# EAGLE library part TPA3130D2DAP (library Deegou_IC)
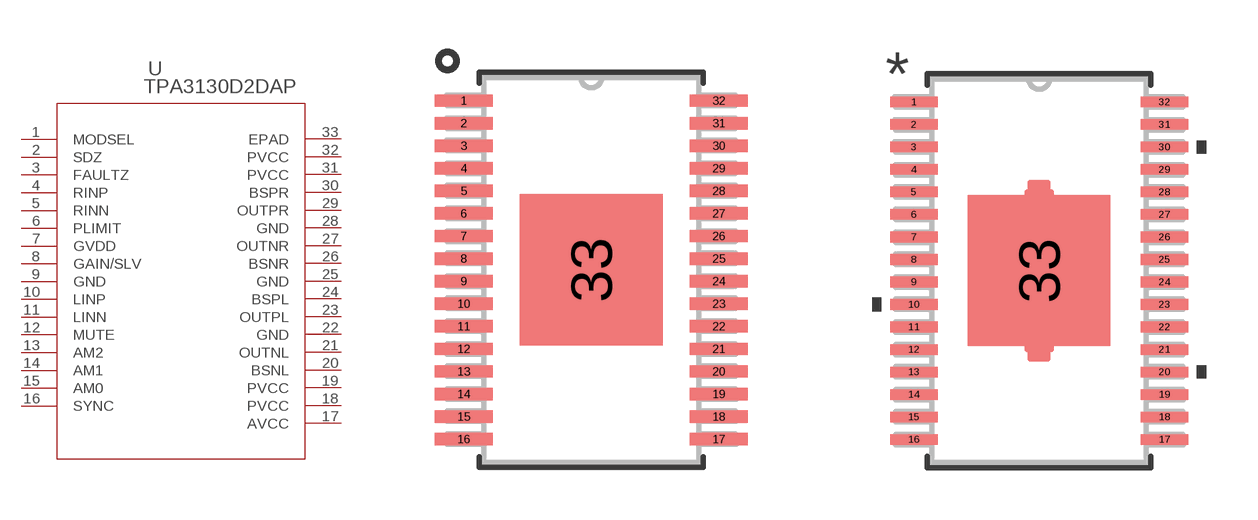
[diagram p178: symbol with the pads of DAP32_4P11X4P36; footprints DAP32_4P11X4P36, DAP32_4P11X4P36-L]

Designator prefix U

## TPA3130D2DAP (MANUFACTURER_PART_NUMBER: TPA3130D2DAP; VENDOR: Texas Instruments)  [DAP32_4P11X4P36]
1  MODSEL  in
2  SDZ  in
3  FAULTZ  out
4  RINP  in
5  RINN  in
6  PLIMIT  in
7  GVDD  out
8  GAIN/SLV  in
9  GND  pwr
10  LINP  in
11  LINN  in
12  MUTE  in
13  AM2  in
14  AM1  in
15  AM0  in
16  SYNC
17  AVCC  pwr
18  PVCC  pwr
19  PVCC  pwr
20  BSNL  out
21  OUTNL  out
22  GND  pwr
23  OUTPL  out
24  BSPL  out
25  GND  pwr
26  BSNR  out
27  OUTNR  out
28  GND  pwr
29  OUTPR  out
30  BSPR  out
31  PVCC  pwr
32  PVCC  pwr
33  EPAD  pas

## TPA3130D2DAPDAP32_4P11X4P36-L (MANUFACTURER_PART_NUMBER: TPA3130D2DAP; VENDOR: Texas Instruments)  [DAP32_4P11X4P36-L]
Pads as for DAP32_4P11X4P36

## TPA3130D2DAPDAP32_4P11X4P36-M (MANUFACTURER_PART_NUMBER: TPA3130D2DAP; VENDOR: Texas Instruments)  [DAP32_4P11X4P36-M]
Pads as for DAP32_4P11X4P36

## Footprint DAP32_4P11X4P36 (pad centres in mm)
smd 1.676 x 0.356: 1 -3.67,4.875; 2 -3.67,4.225; 3 -3.67,3.575; 4 -3.67,2.925; 5 -3.67,2.275; 6 -3.67,1.625; 7 -3.67,0.975; 8 -3.67,0.325; 9 -3.67,-0.325; 10 -3.67,-0.975; 11 -3.67,-1.625; 12 -3.67,-2.275; 13 -3.67,-2.925; 14 -3.67,-3.575; 15 -3.67,-4.225; 16 -3.67,-4.875; 17 3.67,-4.875; 18 3.67,-4.225; 19 3.67,-3.575; 20 3.67,-2.925; 21 3.67,-2.275; 22 3.67,-1.625; 23 3.67,-0.975; 24 3.67,-0.325; 25 3.67,0.325; 26 3.67,0.975; 27 3.67,1.625; 28 3.67,2.275; 29 3.67,2.925; 30 3.67,3.575; 31 3.67,4.225; 32 3.67,4.875
smd 4.11 x 4.36: 33 0,0

## Footprint DAP32_4P11X4P36-L (pad centres in mm)
smd 1.372 x 0.305: 1 -3.619,4.875; 2 -3.619,4.225; 3 -3.619,3.575; 4 -3.619,2.925; 5 -3.619,2.275; 6 -3.619,1.625; 7 -3.619,0.975; 8 -3.619,0.325; 9 -3.619,-0.325; 10 -3.619,-0.975; 11 -3.619,-1.625; 12 -3.619,-2.275; 13 -3.619,-2.925; 14 -3.619,-3.575; 15 -3.619,-4.225; 16 -3.619,-4.875; 17 3.619,-4.875; 18 3.619,-4.225; 19 3.619,-3.575; 20 3.619,-2.925; 21 3.619,-2.275; 22 3.619,-1.625; 23 3.619,-0.975; 24 3.619,-0.325; 25 3.619,0.325; 26 3.619,0.975; 27 3.619,1.625; 28 3.619,2.275; 29 3.619,2.925; 30 3.619,3.575; 31 3.619,4.225; 32 3.619,4.875
smd 4.11 x 4.36: 33 0,0

## Footprint DAP32_4P11X4P36-M (pad centres in mm)
smd 1.981 x 0.406: 1 -3.721,4.875; 2 -3.721,4.225; 3 -3.721,3.575; 4 -3.721,2.925; 5 -3.721,2.275; 6 -3.721,1.625; 7 -3.721,0.975; 8 -3.721,0.325; 9 -3.721,-0.325; 10 -3.721,-0.975; 11 -3.721,-1.625; 12 -3.721,-2.275; 13 -3.721,-2.925; 14 -3.721,-3.575; 15 -3.721,-4.225; 16 -3.721,-4.875; 17 3.721,-4.875; 18 3.721,-4.225; 19 3.721,-3.575; 20 3.721,-2.925; 21 3.721,-2.275; 22 3.721,-1.625; 23 3.721,-0.975; 24 3.721,-0.325; 25 3.721,0.325; 26 3.721,0.975; 27 3.721,1.625; 28 3.721,2.275; 29 3.721,2.925; 30 3.721,3.575; 31 3.721,4.225; 32 3.721,4.875
smd 4.11 x 4.36: 33 0,0